# Altium footprint library Anemoia-ESP32.PcbLib: 32 footprints (part 1 of 2)
Each footprint in its own frame and in the unit in brackets; x right, y up, seen from the top. Pads: shape width x height; smd on the part's side, far side on the other; paste and mask are expansions set on the pad; w line width, h text height; cw(c..) or ccw(c..) is an arc to the next point about the centre after c.
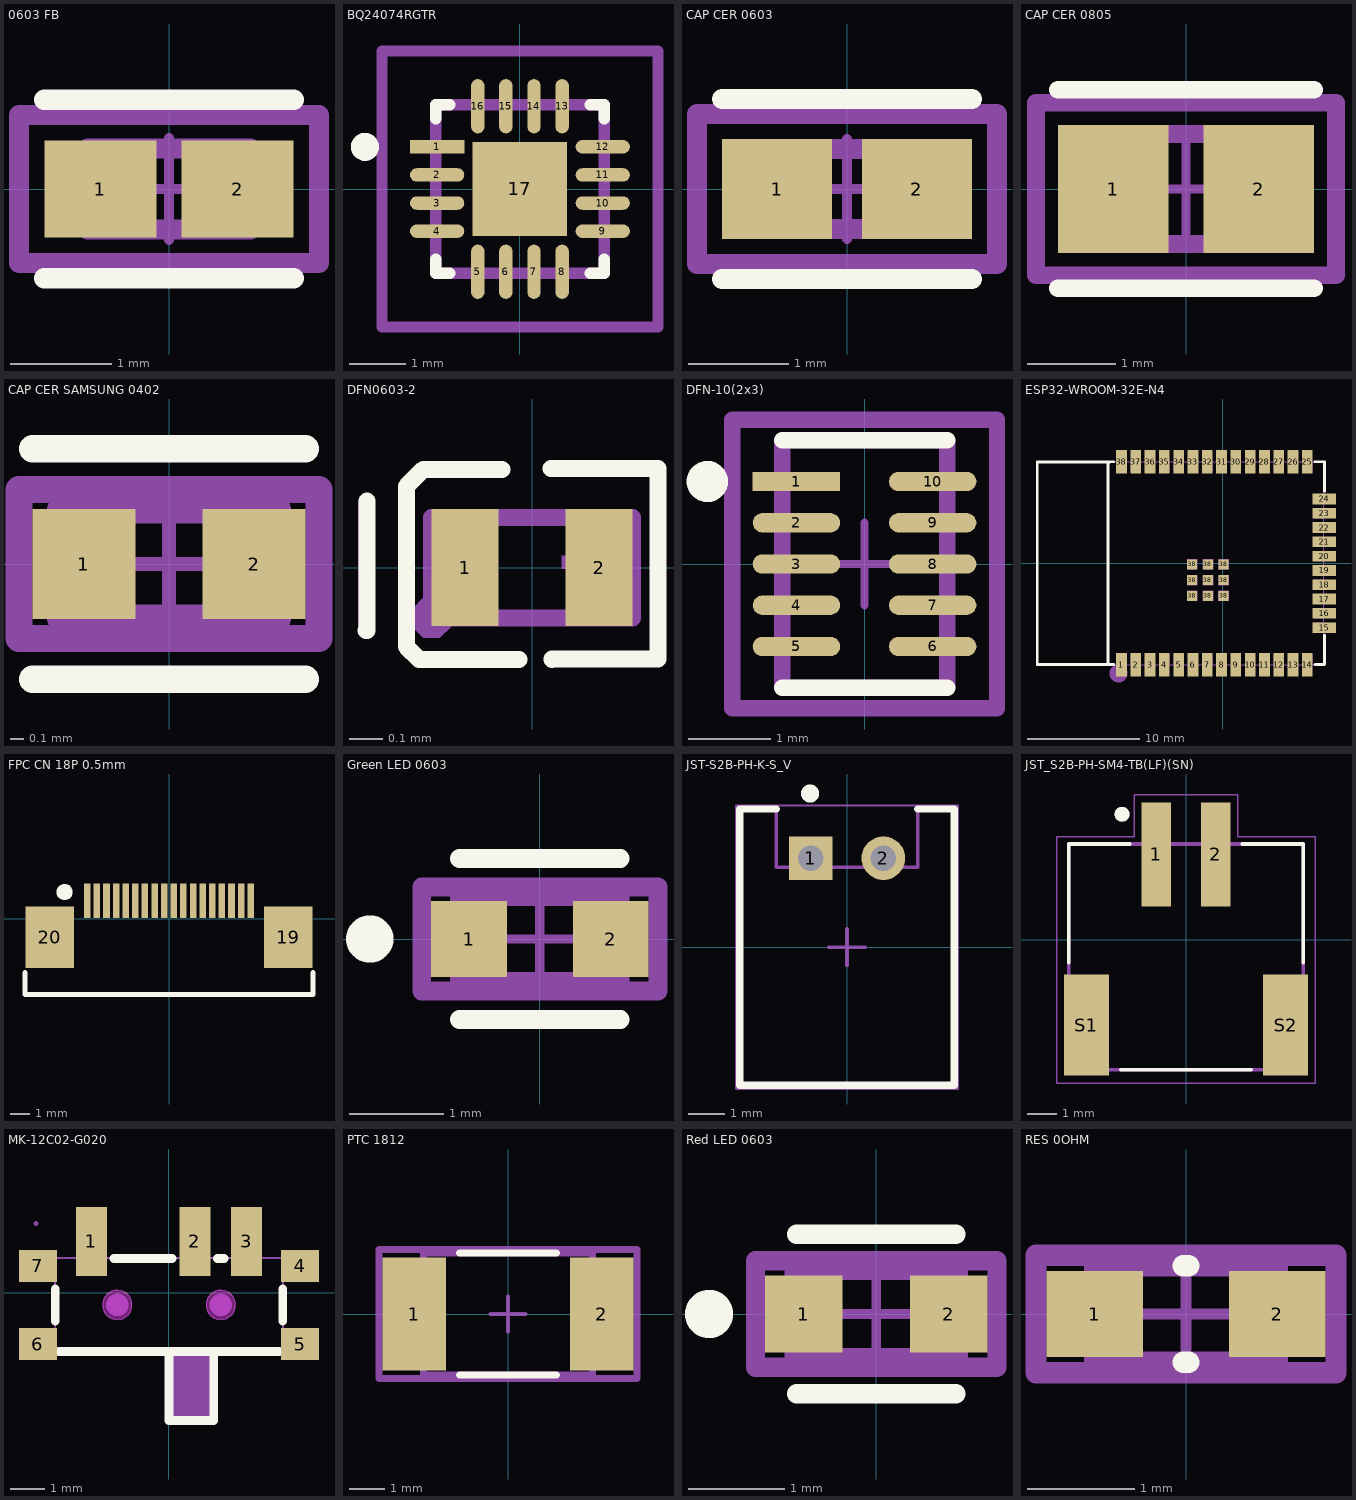
[diagram p0: the footprints below, top view; thin cyan lines are the x and y axes]

## 0603 FB [mm]
pads (2):
  rect 1.106x0.958 smd paste+0 mask+0: 1(-0.676,0) 2(0.676,0)
Top Overlay:
  lines w0.2: -1.229,-0.879 1.229,-0.879 ; -1.229,0.879 1.229,0.879
Top Courtyard:
  lines w0.2: -1.479,-0.729 -1.479,0.729 1.479,0.729 1.479,-0.729 -1.479,-0.729
Top Assembly:
  lines w0.2: -1.479,-0.729 -1.479,0.729 1.479,0.729 1.479,-0.729 -1.479,-0.729
Top 3D Body:
  lines w0.2: -0.8,-0.4 -0.8,0.4 0.8,0.4 0.8,-0.4 -0.8,-0.4
Top Component Center:
  lines w0.1: -0.5,0 0.5,0 ; 0,-0.5 0,0.5
3D body "FBead_Murata_BLM18EG221SN1D_eec.STEP": height 0.25, standoff 0, extent -1.479,-0.729 1.479,0.729

## BQ24074RGTR [mm]
pads (17):
  rect 0.966x0.239 smd paste+0 mask+0: 1(-1.473,0.75)
  rrect100% 0.966x0.239 smd paste+0 mask+0: 2(-1.473,0.25) 3(-1.473,-0.25) 4(-1.473,-0.75) 9(1.473,-0.75) 10(1.473,-0.25) 11(1.473,0.25) 12(1.473,0.75)
  rrect100% 0.239x0.966 smd paste+0 mask+0: 5(-0.75,-1.473) 6(-0.25,-1.473) 7(0.25,-1.473) 8(0.75,-1.473) 13(0.75,1.473) 14(0.25,1.473) 15(-0.25,1.473) 16(-0.75,1.473)
  rect 1.68x1.68 smd paste-1000 mask+0: 17(0,0)
Top Overlay:
  circle w0.25: c-2.756,0.75 r0.125
  lines w0.2: -1.5,-1.25 -1.5,-1.5 -1.25,-1.5 ; -1.5,1.25 -1.5,1.5 -1.25,1.5 ; 1.25,-1.5 1.5,-1.5 1.5,-1.25 ; 1.25,1.5 1.5,1.5 1.5,1.25
Top Paste:
  rectangle: -0.531,-0.531 0.531,0.531
Top Courtyard:
  lines w0.2: -2.456,-2.456 2.456,-2.456 2.456,2.456 -2.456,2.456 -2.456,-2.456
Top Assembly:
  lines w0.2: -2.456,-2.456 2.456,-2.456 2.456,2.456 -2.456,2.456 -2.456,-2.456
Top 3D Body:
  lines w0.2: -1.5,-1.5 1.5,-1.5 1.5,1.5 -1.5,1.5 -1.5,-1.5
Top Component Center:
  lines w0.1: -0.5,0 0.5,0 ; 0,-0.5 0,0.5
3D body "IC_Texas_Instruments_DRV8876RGTR_eec.STEP": height 0.25, standoff 0, extent -2.456,-2.456 2.456,2.456

## CAP CER 0603 [mm]
pads (2):
  rect 1.105x1.006 smd paste+0 mask+0: 1(-0.701,0) 2(0.701,0)
Top Overlay:
  lines w0.2: -1.253,-0.903 1.253,-0.903 ; -1.253,0.903 1.253,0.903
Top Courtyard:
  lines w0.2: -1.503,-0.753 1.503,-0.753 1.503,0.753 -1.503,0.753 -1.503,-0.753
Top Assembly:
  lines w0.2: -1.503,-0.753 1.503,-0.753 1.503,0.753 -1.503,0.753 -1.503,-0.753
Top 3D Body:
  lines w0.2: -0.8,-0.4 0.8,-0.4 0.8,0.4 -0.8,0.4 -0.8,-0.4
Top Component Center:
  lines w0.1: -0.5,0 0.5,0 ; 0,-0.5 0,0.5
3D body "Cap_Murata_GRM188C71C225KE11D_eec.STEP": height 0.25, standoff 0, extent -1.503,-0.753 1.503,0.753

## CAP CER 0805 [mm]
pads (2):
  rect 1.255x1.456 smd paste+0 mask+0: 1(-0.826,0) 2(0.826,0)
Top Overlay:
  lines w0.2: -1.453,-1.128 1.453,-1.128 ; -1.453,1.128 1.453,1.128
Top Courtyard:
  lines w0.2: -1.703,-0.978 1.703,-0.978 1.703,0.978 -1.703,0.978 -1.703,-0.978
Top Assembly:
  lines w0.2: -1.703,-0.978 1.703,-0.978 1.703,0.978 -1.703,0.978 -1.703,-0.978
Top 3D Body:
  lines w0.2: -1,-0.625 1,-0.625 1,0.625 -1,0.625 -1,-0.625
Top Component Center:
  lines w0.1: -0.5,0 0.5,0 ; 0,-0.5 0,0.5
3D body "Cap_Murata_GRM21BC71C106KE11L_eec.STEP": height 0.25, standoff 0, extent -1.703,-0.978 1.703,0.978

## CAP CER SAMSUNG 0402 [mm]
pads (2):
  rect 0.758x0.812 smd paste+0 mask+0: 1(-0.627,0) 2(0.627,0)
Top Overlay:
  lines w0.2: -1.006,-0.85 1.006,-0.85 ; -1.006,0.85 1.006,0.85
Top Courtyard:
  lines w0.2: -1.106,-0.55 -1.106,0.55 1.106,0.55 1.106,-0.55 -1.106,-0.55
Top Assembly:
  lines w0.2: -1.106,-0.55 -1.106,0.55 1.106,0.55 1.106,-0.55 -1.106,-0.55
Top 3D Body:
  lines w0.2: -0.8,-0.4 -0.8,0.4 0.8,0.4 0.8,-0.4 -0.8,-0.4
Top Component Center:
  lines w0.1: -0.5,0 0.5,0 ; 0,-0.5 0,0.5
3D body "Cap_Samsung_CL10B473KO8NNWC_eec.STEP": height 0.25, standoff 0, extent -1.106,-0.55 1.106,0.55

## DFN0603-2 [mm]
pads (2):
  rect 0.2x0.35 smd: 1(-0.2,0) 2(0.2,0)
Top Overlay:
  lines w0.051: -0.495,-0.187 -0.493,-0.187 -0.493,0.199 ; -0.091,0.293 -0.325,0.293 -0.376,0.243 -0.376,-0.236 -0.337,-0.275 -0.039,-0.275 ; 0.057,0.296 0.376,0.296 0.376,-0.273 0.059,-0.273 0.059,-0.274
Mechanical 6:
  region: -0.267,0.04 -0.104,0.04 -0.104,0.002 -0.267,0.002 -0.267,0.011
  region: 0.088,0.035 0.251,0.035 0.251,-0.003 0.088,-0.003 0.088,0.006
  region: 0.153,-0.068 0.153,0.094 0.191,0.094 0.191,-0.068 0.182,-0.068
  region: -0.47,0.2 -0.52,0.2 -0.52,-0.19 -0.47,-0.19
Mechanical 15:
  region: -0.24,-0.15 -0.24,-0.175 -0.275,-0.21 -0.325,-0.21 -0.36,-0.175 -0.36,-0.15 -0.36,-0.125 -0.325,-0.09 -0.275,-0.09 -0.24,-0.125
  region: 0.277,0.128 0.122,0.128 0.122,-0.128 0.277,-0.128
  region: -0.123,-0.128 -0.277,-0.128 -0.277,0.127 -0.174,0.128 -0.123,0.065
  lines w0.051: -0.3,-0.15 -0.3,0.15 0.3,0.15 0.3,-0.15 -0.3,-0.15

## DFN-10(2x3) [mm]
pads (10):
  rect 1.06x0.236 smd paste+0 mask+0: 1(-0.826,1)
  rrect100% 1.06x0.236 smd paste+0 mask+0: 2(-0.826,0.5) 3(-0.826,0) 4(-0.826,-0.5) 5(-0.826,-1) 6(0.826,-1) 7(0.826,-0.5) 8(0.826,0) 9(0.826,0.5) 10(0.826,1)
Top Overlay:
  circle w0.25: c-1.906,1 r0.125
  lines w0.2: -1,-1.5 1,-1.5 ; -1,1.5 1,1.5
Top Courtyard:
  lines w0.2: -1.606,-1.75 1.606,-1.75 1.606,1.75 -1.606,1.75 -1.606,-1.75
Top Assembly:
  lines w0.2: -1.606,-1.75 1.606,-1.75 1.606,1.75 -1.606,1.75 -1.606,-1.75
Top 3D Body:
  lines w0.2: -1,-1.5 1,-1.5 1,1.5 -1,1.5 -1,-1.5
Top Component Center:
  lines w0.1: -0.5,0 0.5,0 ; 0,-0.5 0,0.5
3D body "IC_STMicroelectronics_STC3115AIQT_eec.STEP": height 0.25, standoff 0, extent -1.606,-1.75 1.606,1.75

## ESP32-WROOM-32E-N4 [mm]
pads (47):
  rect 0.95x2.1 smd: 1(-9.003,-9) 2(-7.733,-9) 3(-6.463,-9) 4(-5.193,-9) 5(-3.923,-9) 6(-2.653,-9) 7(-1.383,-9) 8(-0.113,-9) 9(1.157,-9) 10(2.427,-9) 11(3.697,-9) 12(4.967,-9) 13(6.237,-9) 14(7.507,-9) 25(7.507,9) 26(6.237,9) 27(4.967,9) 28(3.697,9) 29(2.427,9) 30(1.157,9) 31(-0.113,9) 32(-1.383,9) 33(-2.653,9) 34(-3.923,9) 35(-5.193,9) 36(-6.463,9) 37(-7.733,9) 38(-9.003,9)
  rect 2.1x0.95 smd: 15(9.003,-5.715) 16(9.003,-4.445) 17(9.003,-3.175) 18(9.003,-1.905) 19(9.003,-0.635) 20(9.003,0.635) 21(9.003,1.905) 22(9.003,3.175) 23(9.003,4.445) 24(9.003,5.715)
  rect 0.9x0.9 smd: 38(-2.722,-2.9) 38(-2.722,-1.5) 38(-2.722,-0.1) 38(-1.322,-2.9) 38(-1.322,-1.5) 38(-1.322,-0.1) 38(0.078,-2.9) 38(0.078,-1.5) 38(0.078,-0.1)
Top Overlay:
  lines w0.254: -10.193,9 -10.193,-9 -9.684,-9 ; -10.193,9.017 -9.684,9.017 ; -10.027,-9 -16.477,-9 -16.477,9 -10.011,9 ; 8.189,-9 9.023,-9 9.023,-6.396 ; 8.189,9.017 9.023,9.017 9.023,6.396
Mechanical 6:
  circle w0.8: c-9.264,-9.779 r0.4
Mechanical 15:
  drawing of 52 lines, arcs and shapes, not listed
3D body "ESP32-WROOM-32E (4MB).STEP": height 3.25, standoff 0, extent -16.485,-8.975 9.015,9.025

## FPC CN 18P 0.5mm [mm]
pads (20):
  rect 0.34x1.8 smd: 1(-4.25,0.95) 2(-3.75,0.95) 3(-3.25,0.95) 4(-2.75,0.95) 5(-2.25,0.95) 6(-1.75,0.95) 7(-1.25,0.95) 8(-0.75,0.95) 9(-0.25,0.95) 10(0.25,0.95) 11(0.75,0.95) 12(1.25,0.95) 13(1.75,0.95) 14(2.25,0.95) 15(2.75,0.95) 16(3.25,0.95) 17(3.75,0.95) 18(4.25,0.95)
  rect 2.5x3.2 smd: 19(6.2,-0.95) 20(-6.2,-0.95)
Top Overlay:
  region: -5.843,1.397 -5.843,1.479 -5.781,1.63 -5.665,1.745 -5.514,1.808 -5.35,1.808 -5.199,1.745 -5.084,1.63 -5.021,1.479 -5.021,1.397 -5.021,1.315 -5.084,1.164 -5.199,1.049 -5.35,0.986 -5.514,0.986 -5.665,1.049 -5.781,1.164 -5.843,1.315
  lines w0.254: -7.494,-2.777 -7.494,-3.937 7.494,-3.937 7.494,-2.777
3D body "0527461871.stp": height 1.9, standoff -0.02, extent -7.55,-3.8 7.55,1.2

## Green LED 0603 [mm]
pads (2):
  rect 0.8x0.8 smd paste+0 mask+0: 1(-0.75,0) 2(0.75,0)
Top Overlay:
  circle w0.25: c-1.8,0 r0.125
  lines w0.2: -0.85,-0.85 0.85,-0.85 ; -0.85,0.85 0.85,0.85
Top Courtyard:
  lines w0.2: -1.25,-0.55 -1.25,0.55 1.25,0.55 1.25,-0.55 -1.25,-0.55
Top Assembly:
  lines w0.2: -1.25,-0.55 -1.25,0.55 1.25,0.55 1.25,-0.55 -1.25,-0.55
Top 3D Body:
  lines w0.2: -0.85,-0.45 -0.85,0.45 0.85,0.45 0.85,-0.45 -0.85,-0.45
Top Component Center:
  lines w0.1: -0.5,0 0.5,0 ; 0,-0.5 0,0.5
3D body "Diode_Lite-On_LTST-C190GKT_eec.STEP": height 0.25, standoff 0, extent -1.25,-0.55 1.25,0.55

## JST-S2B-PH-K-S_V [mm] "THD, 2-Leads, Body 7.6x5.9mm, Pitch 2mm"
height 4.8
pads (2):
  rect 1.2x1.2 hole 0.7: 1(-1,2.45)
  round 1.2 hole 0.7: 2(1,2.45)
Top Overlay:
  circle w0.25: c-1.016,4.228 r0.125
  lines w0.2: -1.95,3.8 -2.95,3.8 -2.95,-3.8 2.95,-3.8 2.95,3.8 1.95,3.8
Top 3D Body:
  lines w0.1: -2.95,-3.8 2.95,-3.8 2.95,3.8 1.95,3.8 1.95,2.2 -1.95,2.2 -1.95,3.8 -1.95,3.8 -2.95,3.8 -2.95,-3.8
Mechanical 15:
  lines w0.05: -3.05,-3.9 -3.05,3.9 3.05,3.9 3.05,-3.9 -3.05,-3.9
  lines w0.1: -0.5,0 0.5,0 ; 0,-0.5 0,0.5
3D body "S2B-PH-K-S.STEP": height 4.8, standoff -3.4, extent -2.95,-3.8 2.95,3.8

## JST_S2B-PH-SM4-TB(LF)(SN) [mm]
pads (4):
  rect 1x3.5 smd: 1(-1,2.875) 2(1,2.875)
  rect 1.5x3.4 smd: S1(-3.35,-2.875) S2(3.35,-2.875)
Top Overlay:
  circle w0.3: c-2.15,4.225 r0.1
  lines w0.127: -3.95,-0.775 -3.95,3.225 -1.9,3.225 ; -2.2,-4.375 2.2,-4.375 ; 1.9,3.225 3.95,3.225 3.95,-0.775
Top 3D Body:
  circle w0.3: c-2.15,4.225 r0.1
  lines w0.127: -3.95,-4.375 3.95,-4.375 3.95,3.225 -3.95,3.225 -3.95,-4.375
Mechanical 15:
  lines w0.05: -4.35,-4.825 4.35,-4.825 4.35,3.475 1.75,3.475 1.75,4.875 -1.75,4.875 -1.75,3.475 -4.35,3.475 -4.35,-4.825
3D body "step_temp.STEP": height 5.5, standoff -0.1, extent -3.95,-4.5 3.95,4.1

## MK-12C02-G020 [mm]
pads (7):
  rect 0.9x2 smd: 1(-2.25,1.491) 2(0.75,1.491) 3(2.25,1.491)
  rect 1.1x0.93 smd: 4(3.8,0.779) 5(3.8,-1.491) 6(-3.8,-1.491) 7(-3.8,0.779)
Top Overlay:
  lines w0.254: -3.3,-0.818 -3.3,0.106 ; -3.2,-1.706 3.2,-1.706 ; -1.592,0.994 0.092,0.994 ; 0,-1.706 0,-3.706 1.3,-3.706 1.3,-1.706 ; 1.408,0.994 1.592,0.994 ; 3.3,-0.818 3.3,0.106
Keep-Out Layer:
  board cut-out: -1.075,-0.356 -1.075,-0.44 -1.14,-0.596 -1.259,-0.716 -1.415,-0.781 -1.585,-0.781 -1.741,-0.716 -1.86,-0.596 -1.925,-0.44 -1.925,-0.356 -1.925,-0.271 -1.86,-0.115 -1.741,0.005 -1.585,0.069 -1.415,0.069 -1.259,0.005 -1.14,-0.115 -1.075,-0.271
  board cut-out: 1.925,-0.356 1.925,-0.44 1.86,-0.596 1.741,-0.716 1.585,-0.781 1.415,-0.781 1.259,-0.716 1.14,-0.596 1.075,-0.44 1.075,-0.356 1.075,-0.271 1.14,-0.115 1.259,0.005 1.415,0.069 1.585,0.069 1.741,0.005 1.86,-0.115 1.925,-0.271
Keep-Out Layer:
  circle w0.025: c-1.5,-0.356 r0.425
  circle w0.025: c1.5,-0.356 r0.425
  region: -1.075,-0.356 -1.075,-0.44 -1.14,-0.596 -1.259,-0.716 -1.415,-0.781 -1.585,-0.781 -1.741,-0.716 -1.86,-0.596 -1.925,-0.44 -1.925,-0.356 -1.925,-0.271 -1.86,-0.115 -1.741,0.005 -1.585,0.069 -1.415,0.069 -1.259,0.005 -1.14,-0.115 -1.075,-0.271
  region: 1.925,-0.356 1.925,-0.44 1.86,-0.596 1.741,-0.716 1.585,-0.781 1.415,-0.781 1.259,-0.716 1.14,-0.596 1.075,-0.44 1.075,-0.356 1.075,-0.271 1.14,-0.115 1.259,0.005 1.415,0.069 1.585,0.069 1.741,0.005 1.86,-0.115 1.925,-0.271
Mechanical 1:
  circle w0.025: c-1.5,-0.356 r0.425
  circle w0.025: c1.5,-0.356 r0.425
Mechanical 6:
  circle w0.325: c1.5,-0.356 r0.163
  circle w0.325: c-1.5,-0.356 r0.163
  region: -0.043,-1.688 1.341,-1.688 1.341,-3.706 -0.036,-3.706 -0.036,-3.466
Mechanical 15:
  region: -3.855,-1.706 -3.855,-1.276 -3.255,-1.276 -3.255,-1.706
  region: 3.258,-1.706 3.258,-1.276 3.858,-1.276 3.858,-1.706
  region: 3.258,0.564 3.258,0.994 3.858,0.994 3.858,0.564
  region: -3.855,0.564 -3.855,0.994 -3.255,0.994 -3.255,0.564
  region: 2.05,2.005 2.45,2.005 2.45,0.505 2.05,0.505
  region: 0.55,2.005 0.95,2.005 0.95,0.505 0.55,0.505
  region: -2.45,2.005 -2.05,2.005 -2.05,0.505 -2.45,0.505
  region: -3.795,2.005 -3.795,1.98 -3.83,1.945 -3.88,1.945 -3.915,1.98 -3.915,2.005 -3.915,2.029 -3.88,2.065 -3.83,2.065 -3.795,2.029
  lines w0.051: -3.305,1.005 -3.296,-1.714 0.006,-1.714 0.006,-3.727 1.304,-3.727 1.304,-1.709 3.308,-1.709 3.308,1.005 -3.305,1.005
3D body "PCM12SMTR--3DModel-STEP-56544.STEP": height 1.4, standoff -0.51, extent -3.861,-3.144 3.861,1.834

## PTC 1812 [mm]
pads (2):
  rect 1.78x3.15 smd paste+0 mask+0: 1(-2.615,0) 2(2.615,0)
Top Overlay:
  lines w0.2: -1.35,-1.705 1.35,-1.705 ; -1.35,1.705 1.35,1.705
Top Courtyard:
  lines w0.2: -3.605,-1.805 -3.605,1.805 3.605,1.805 3.605,-1.805 -3.605,-1.805
Top Assembly:
  lines w0.2: -3.605,-1.805 -3.605,1.805 3.605,1.805 3.605,-1.805 -3.605,-1.805
Top 3D Body:
  lines w0.2: -2.365,-1.705 -2.365,1.705 2.365,1.705 2.365,-1.705 -2.365,-1.705
Top Component Center:
  lines w0.1: -0.5,0 0.5,0 ; 0,-0.5 0,0.5
3D body "Fuse_Littelfuse_Inc_1812L150-24MR_eec.STEP": height 0.25, standoff 0, extent -3.605,-1.805 3.605,1.805

## Red LED 0603 [mm]
pads (2):
  rect 0.8x0.8 smd paste+0 mask+0: 1(-0.75,0) 2(0.75,0)
Top Overlay:
  circle w0.25: c-1.73,0 r0.125
  lines w0.2: -0.825,-0.825 0.825,-0.825 ; -0.825,0.825 0.825,0.825
Top Courtyard:
  lines w0.2: -1.25,-0.55 -1.25,0.55 1.25,0.55 1.25,-0.55 -1.25,-0.55
Top Assembly:
  lines w0.2: -1.25,-0.55 -1.25,0.55 1.25,0.55 1.25,-0.55 -1.25,-0.55
  text ".Designator" at 0,-0.001 h1
Top 3D Body:
  lines w0.2: -0.85,-0.45 -0.85,0.45 0.85,0.45 0.85,-0.45 -0.85,-0.45
Top Component Center:
  lines w0.1: -0.5,0 0.5,0 ; 0,-0.5 0,0.5
3D body "Diode_Lite-On_LTST-C190KRKT_eec.STEP": height 0.25, standoff 0, extent -1.25,-0.55 1.25,0.55

## RES 0OHM [mm]
pads (2):
  rect 0.9x0.8 smd paste+0 mask+0: 1(-0.85,0) 2(0.85,0)
Top Overlay:
  lines w0.2: -0.025,-0.45 0.025,-0.45 ; -0.025,0.45 0.025,0.45
Top Courtyard:
  lines w0.2: -1.4,-0.55 -1.4,0.55 1.4,0.55 1.4,-0.55 -1.4,-0.55
Top Assembly:
  lines w0.2: -1.4,-0.55 -1.4,0.55 1.4,0.55 1.4,-0.55 -1.4,-0.55
Top 3D Body:
  lines w0.2: -0.85,-0.45 -0.85,0.45 0.85,0.45 0.85,-0.45 -0.85,-0.45
Top Component Center:
  lines w0.1: -0.5,0 0.5,0 ; 0,-0.5 0,0.5
3D body "Res_Yageo_RC0603FR-070RL_eec.STEP": height 0.25, standoff 0, extent -1.4,-0.55 1.4,0.55